# Altium schematic symbol library WE-CBF_1206.SchLib: 24 symbols
Pins are listed as number, name and electrical type; pins without a type are passive.

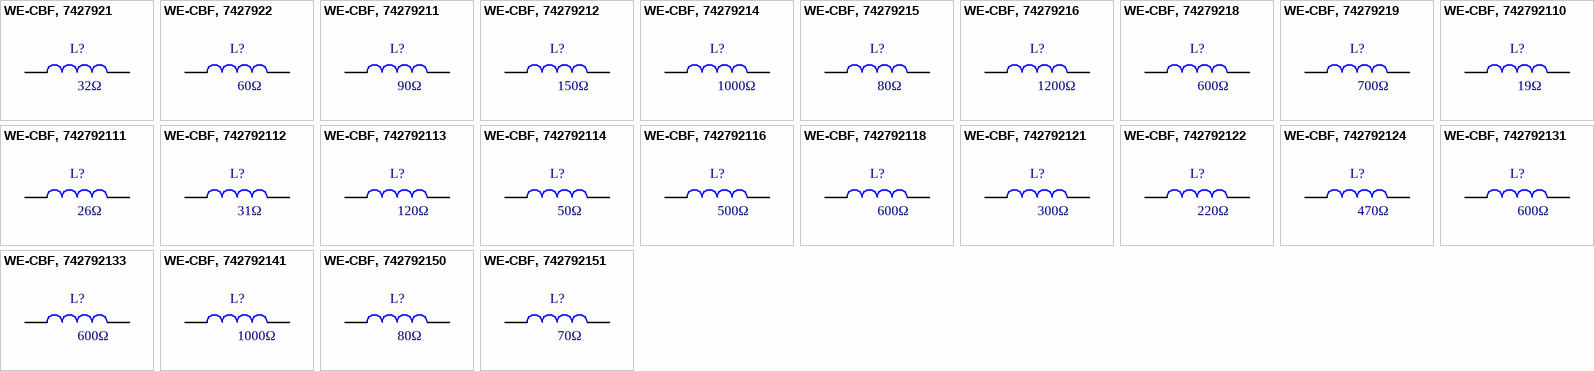
[diagram p0: symbols WE-CBF, 7427921 to WE-CBF, 742792151]

## WE-CBF, 7427921
designator L?, comment 32Ω
WE-CBF SMD EMI Suppression Ferrite Bead, 1206, 32Ω; PartNumber: 7427921; Type: High Speed; PublishedDate: Aug 2016; Publisher: Wurth Elektronik; ComponentLink1Description: Manufacturer; ComponentLink1URL: http://www.we-online.de; ComponentLink2Description: Datasheet; ComponentLink2URL: http://katalog.we-online.de/pbs/datasheet/7427921.pdf; Value: 32Ω; Size: 1206
footprint WE-CBF_1206_High Speed
pins: 1, 2

## WE-CBF, 7427922
designator L?, comment 60Ω
WE-CBF SMD EMI Suppression Ferrite Bead, 1206, 60Ω; PartNumber: 7427922; Type: High Speed; PublishedDate: Aug 2016; Publisher: Wurth Elektronik; ComponentLink1Description: Manufacturer; ComponentLink1URL: http://www.we-online.de; ComponentLink2Description: Datasheet; ComponentLink2URL: http://katalog.we-online.de/pbs/datasheet/7427922.pdf; Value: 60Ω; Size: 1206
footprint WE-CBF_1206_High Speed
pins: 1, 2

## WE-CBF, 74279211
designator L?, comment 90Ω
WE-CBF SMD EMI Suppression Ferrite Bead, 1206, 90Ω; PartNumber: 74279211; Type: High Speed; PublishedDate: Aug 2016; Publisher: Wurth Elektronik; ComponentLink1Description: Manufacturer; ComponentLink1URL: http://www.we-online.de; ComponentLink2Description: Datasheet; ComponentLink2URL: http://katalog.we-online.de/pbs/datasheet/74279211.pdf; Value: 90Ω; Size: 1206
footprint WE-CBF_1206_High Speed
pins: 1, 2

## WE-CBF, 74279212
designator L?, comment 150Ω
WE-CBF SMD EMI Suppression Ferrite Bead, 1206, 150Ω; PartNumber: 74279212; Type: High Speed; PublishedDate: Aug 2016; Publisher: Wurth Elektronik; ComponentLink1Description: Manufacturer; ComponentLink1URL: http://www.we-online.de; ComponentLink2Description: Datasheet; ComponentLink2URL: http://katalog.we-online.de/pbs/datasheet/74279212.pdf; Value: 150Ω; Size: 1206
footprint WE-CBF_1206_High Speed
pins: 1, 2

## WE-CBF, 74279214
designator L?, comment 1000Ω
WE-CBF SMD EMI Suppression Ferrite Bead, 1206, 1000Ω; PartNumber: 74279214; Type: Wide Band; PublishedDate: Aug 2016; Publisher: Wurth Elektronik; ComponentLink1Description: Manufacturer; ComponentLink1URL: http://www.we-online.de; ComponentLink2Description: Datasheet; ComponentLink2URL: http://katalog.we-online.de/pbs/datasheet/74279214.pdf; Value: 1000Ω; Size: 1206
footprint WE-CBF_1206_Wide Band
pins: 1, 2

## WE-CBF, 74279215
designator L?, comment 80Ω
WE-CBF SMD EMI Suppression Ferrite Bead, 1206, 80Ω; PartNumber: 74279215; Type: High Current; PublishedDate: Aug 2016; Publisher: Wurth Elektronik; ComponentLink1Description: Manufacturer; ComponentLink1URL: http://www.we-online.de; ComponentLink2Description: Datasheet; ComponentLink2URL: http://katalog.we-online.de/pbs/datasheet/74279215.pdf; Value: 80Ω; Size: 1206
footprint WE-CBF_1206_High Current
pins: 1, 2

## WE-CBF, 74279216
designator L?, comment 1200Ω
WE-CBF SMD EMI Suppression Ferrite Bead, 1206, 1200Ω; PartNumber: 74279216; Type: Wide Band; PublishedDate: Aug 2016; Publisher: Wurth Elektronik; ComponentLink1Description: Manufacturer; ComponentLink1URL: http://www.we-online.de; ComponentLink2Description: Datasheet; ComponentLink2URL: http://katalog.we-online.de/pbs/datasheet/74279216.pdf; Value: 1200Ω; Size: 1206
footprint WE-CBF_1206_Wide Band
pins: 1, 2

## WE-CBF, 74279218
designator L?, comment 600Ω
WE-CBF SMD EMI Suppression Ferrite Bead, 1206, 600Ω; PartNumber: 74279218; Type: High Current; PublishedDate: Aug 2016; Publisher: Wurth Elektronik; ComponentLink1Description: Manufacturer; ComponentLink1URL: http://www.we-online.de; ComponentLink2Description: Datasheet; ComponentLink2URL: http://katalog.we-online.de/pbs/datasheet/74279218.pdf; Value: 600Ω; Size: 1206
footprint WE-CBF_1206_High Current
pins: 1, 2

## WE-CBF, 74279219
designator L?, comment 700Ω
WE-CBF SMD EMI Suppression Ferrite Bead, 1206, 700Ω; PartNumber: 74279219; Type: Wide Band; PublishedDate: Aug 2016; Publisher: Wurth Elektronik; ComponentLink1Description: Manufacturer; ComponentLink1URL: http://www.we-online.de; ComponentLink2Description: Datasheet; ComponentLink2URL: http://katalog.we-online.de/pbs/datasheet/74279219.pdf; Value: 700Ω; Size: 1206
footprint WE-CBF_1206_Wide Band
pins: 1, 2

## WE-CBF, 742792110
designator L?, comment 19Ω
WE-CBF SMD EMI Suppression Ferrite Bead, 1206, 19Ω; PartNumber: 742792110; Type: High Current; PublishedDate: Aug 2016; Publisher: Wurth Elektronik; ComponentLink1Description: Manufacturer; ComponentLink1URL: http://www.we-online.de; ComponentLink2Description: Datasheet; ComponentLink2URL: http://katalog.we-online.de/pbs/datasheet/742792110.pdf; Value: 19Ω; Size: 1206
footprint WE-CBF_1206_High Current
pins: 1, 2

## WE-CBF, 742792111
designator L?, comment 26Ω
WE-CBF SMD EMI Suppression Ferrite Bead, 1206, 26Ω; PartNumber: 742792111; Type: High Current; PublishedDate: Aug 2016; Publisher: Wurth Elektronik; ComponentLink1Description: Manufacturer; ComponentLink1URL: http://www.we-online.de; ComponentLink2Description: Datasheet; ComponentLink2URL: http://katalog.we-online.de/pbs/datasheet/742792111.pdf; Value: 26Ω; Size: 1206
footprint WE-CBF_1206_High Current
pins: 1, 2

## WE-CBF, 742792112
designator L?, comment 31Ω
WE-CBF SMD EMI Suppression Ferrite Bead, 1206, 31Ω; PartNumber: 742792112; Type: High Current; PublishedDate: Aug 2016; Publisher: Wurth Elektronik; ComponentLink1Description: Manufacturer; ComponentLink1URL: http://www.we-online.de; ComponentLink2Description: Datasheet; ComponentLink2URL: http://katalog.we-online.de/pbs/datasheet/742792112.pdf; Value: 31Ω; Size: 1206
footprint WE-CBF_1206_High Current
pins: 1, 2

## WE-CBF, 742792113
designator L?, comment 120Ω
WE-CBF SMD EMI Suppression Ferrite Bead, 1206, 120Ω; PartNumber: 742792113; Type: High Current; PublishedDate: Aug 2016; Publisher: Wurth Elektronik; ComponentLink1Description: Manufacturer; ComponentLink1URL: http://www.we-online.de; ComponentLink2Description: Datasheet; ComponentLink2URL: http://katalog.we-online.de/pbs/datasheet/742792113.pdf; Value: 120Ω; Size: 1206
footprint WE-CBF_1206_High Current
pins: 1, 2

## WE-CBF, 742792114
designator L?, comment 50Ω
WE-CBF SMD EMI Suppression Ferrite Bead, 1206, 50Ω; PartNumber: 742792114; Type: High Current; PublishedDate: Aug 2016; Publisher: Wurth Elektronik; ComponentLink1Description: Manufacturer; ComponentLink1URL: http://www.we-online.de; ComponentLink2Description: Datasheet; ComponentLink2URL: http://katalog.we-online.de/pbs/datasheet/742792114.pdf; Value: 50Ω; Size: 1206
footprint WE-CBF_1206_High Current
pins: 1, 2

## WE-CBF, 742792116
designator L?, comment 500Ω
WE-CBF SMD EMI Suppression Ferrite Bead, 1206, 500Ω; PartNumber: 742792116; Type: High Current; PublishedDate: Aug 2016; Publisher: Wurth Elektronik; ComponentLink1Description: Manufacturer; ComponentLink1URL: http://www.we-online.de; ComponentLink2Description: Datasheet; ComponentLink2URL: http://katalog.we-online.de/pbs/datasheet/742792116.pdf; Value: 500Ω; Size: 1206
footprint WE-CBF_1206_High Current
pins: 1, 2

## WE-CBF, 742792118
designator L?, comment 600Ω
WE-CBF SMD EMI Suppression Ferrite Bead, 1206, 600Ω; PartNumber: 742792118; Type: High Current; PublishedDate: Aug 2016; Publisher: Wurth Elektronik; ComponentLink1Description: Manufacturer; ComponentLink1URL: http://www.we-online.de; ComponentLink2Description: Datasheet; ComponentLink2URL: http://katalog.we-online.de/pbs/datasheet/742792118.pdf; Value: 600Ω; Size: 1206
footprint WE-CBF_1206_High Current
pins: 1, 2

## WE-CBF, 742792121
designator L?, comment 300Ω
WE-CBF SMD EMI Suppression Ferrite Bead, 1206, 300Ω; PartNumber: 742792121; Type: High Current; PublishedDate: Aug 2016; Publisher: Wurth Elektronik; ComponentLink1Description: Manufacturer; ComponentLink1URL: http://www.we-online.de; ComponentLink2Description: Datasheet; ComponentLink2URL: http://katalog.we-online.de/pbs/datasheet/742792121.pdf; Value: 300Ω; Size: 1206
footprint WE-CBF_1206_High Current
pins: 1, 2

## WE-CBF, 742792122
designator L?, comment 220Ω
WE-CBF SMD EMI Suppression Ferrite Bead, 1206, 220Ω; PartNumber: 742792122; Type: High Speed; PublishedDate: Aug 2016; Publisher: Wurth Elektronik; ComponentLink1Description: Manufacturer; ComponentLink1URL: http://www.we-online.de; ComponentLink2Description: Datasheet; ComponentLink2URL: http://katalog.we-online.de/pbs/datasheet/742792122.pdf; Value: 220Ω; Size: 1206
footprint WE-CBF_1206_High Speed
pins: 1, 2

## WE-CBF, 742792124
designator L?, comment 470Ω
WE-CBF SMD EMI Suppression Ferrite Bead, 1206, 470Ω; PartNumber: 742792124; Type: Wide Band; PublishedDate: Aug 2016; Publisher: Wurth Elektronik; ComponentLink1Description: Manufacturer; ComponentLink1URL: http://www.we-online.de; ComponentLink2Description: Datasheet; ComponentLink2URL: http://katalog.we-online.de/pbs/datasheet/742792124.pdf; Value: 470Ω; Size: 1206
footprint WE-CBF_1206_Wide Band
pins: 1, 2

## WE-CBF, 742792131
designator L?, comment 600Ω
WE-CBF SMD EMI Suppression Ferrite Bead, 1206, 600Ω; PartNumber: 742792131; Type: Wide Band; PublishedDate: Aug 2016; Publisher: Wurth Elektronik; ComponentLink1Description: Manufacturer; ComponentLink1URL: http://www.we-online.de; ComponentLink2Description: Datasheet; ComponentLink2URL: http://katalog.we-online.de/pbs/datasheet/742792131.pdf; Value: 600Ω; Size: 1206
footprint WE-CBF_1206_Wide Band
pins: 1, 2

## WE-CBF, 742792133
designator L?, comment 600Ω
WE-CBF SMD EMI Suppression Ferrite Bead, 1206, 600Ω; PartNumber: 742792133; Type: Wide Band; PublishedDate: Aug 2016; Publisher: Wurth Elektronik; ComponentLink1Description: Manufacturer; ComponentLink1URL: http://www.we-online.de; ComponentLink2Description: Datasheet; ComponentLink2URL: http://katalog.we-online.de/pbs/datasheet/742792133.pdf; Value: 600Ω; Size: 1206
footprint WE-CBF_1206_Wide Band
pins: 1, 2

## WE-CBF, 742792141
designator L?, comment 1000Ω
WE-CBF SMD EMI Suppression Ferrite Bead, 1206, 1000Ω; PartNumber: 742792141; Type: High Current; PublishedDate: Aug 2016; Publisher: Wurth Elektronik; ComponentLink1Description: Manufacturer; ComponentLink1URL: http://www.we-online.de; ComponentLink2Description: Datasheet; ComponentLink2URL: http://katalog.we-online.de/pbs/datasheet/742792141.pdf; Value: 1000Ω; Size: 1206
footprint WE-CBF_1206_High Current
pins: 1, 2

## WE-CBF, 742792150
designator L?, comment 80Ω
WE-CBF SMD EMI Suppression Ferrite Bead, 1206, 80Ω; PartNumber: 742792150; Type: High Current; PublishedDate: Aug 2016; Publisher: Wurth Elektronik; ComponentLink1Description: Manufacturer; ComponentLink1URL: http://www.we-online.de; ComponentLink2Description: Datasheet; ComponentLink2URL: http://katalog.we-online.de/pbs/datasheet/742792150.pdf; Value: 80Ω; Size: 1206
footprint WE-CBF_1206_High Current
pins: 1, 2

## WE-CBF, 742792151
designator L?, comment 70Ω
WE-CBF SMD EMI Suppression Ferrite Bead, 1206, 70Ω; PartNumber: 742792151; Type: High Speed; PublishedDate: Aug 2016; Publisher: Wurth Elektronik; ComponentLink1Description: Manufacturer; ComponentLink1URL: http://www.we-online.de; ComponentLink2Description: Datasheet; ComponentLink2URL: http://katalog.we-online.de/pbs/datasheet/742792151.pdf; Value: 70Ω; Size: 1206
footprint WE-CBF_1206_High Speed
pins: 1, 2